# Altium footprint library CRYSTAL_OSC.PcbLib: 53 footprints (part 3 of 4)
Each footprint in its own frame and in the unit in brackets; x right, y up, seen from the top. Pads: shape width x height; smd on the part's side, far side on the other; paste and mask are expansions set on the pad; w line width, h text height; cw(c..) or ccw(c..) is an arc to the next point about the centre after c.
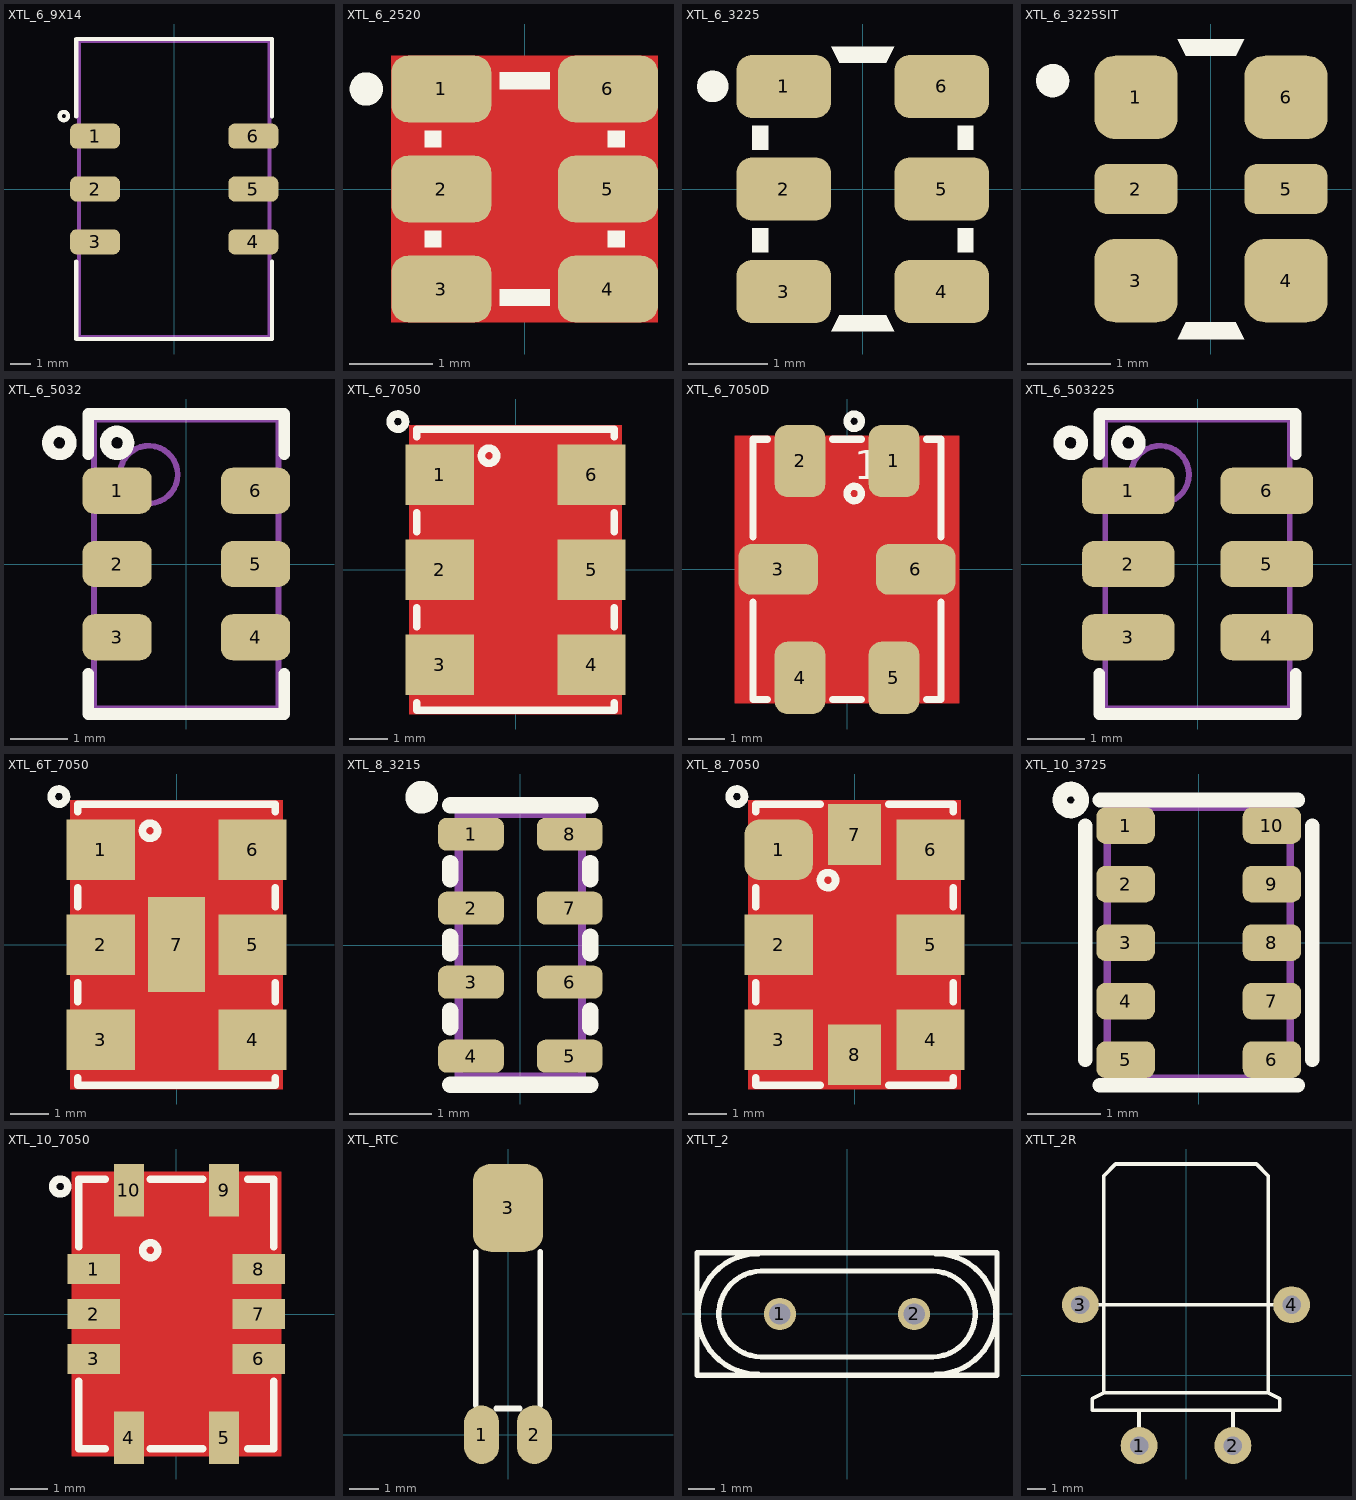
[diagram p2: the footprints below, top view; thin cyan lines are the x and y axes]

## XTL_6_9X14 [mm] "VCXO CVPD-920/940/970 9x14mm"
height 5.3
pads (6):
  rrect50% 2.4x1.2 smd: 1(-3.8,2.54) 2(-3.8,0) 3(-3.8,-2.54) 4(3.8,-2.54) 5(3.8,0) 6(3.8,2.54)
Top Overlay:
  circle w0.2: c-5.3,3.5 r0.2
  lines w0.2: -4.7,-3.481 -4.7,-7.2 4.7,-7.2 4.7,-3.481 ; -4.7,3.481 -4.7,7.2 4.7,7.2 4.7,3.481
Mechanical 15:
  lines w0.2: -4.57,-7.1 -4.57,7.1 4.57,7.1 4.57,-7.1 -4.57,-7.1
3D body "User Library-CVHD-950.step": height 5.3, standoff 0, extent -4.58,-7.1 4.58,7.1

## XTL_6_2520 [mm] "KT2520, KT2520, SM2520 2.5X2.0mm"
pads (6):
  rrect50% 1.2x0.8 smd mask+0.075: 1(-1,1.2) 2(-1,0) 3(-1,-1.2) 4(1,-1.2) 5(1,0) 6(1,1.2)
Top Layer:
  pour cut-out: -1.6,1.6 -1.6,-1.6 1.6,-1.6 1.6,1.6
Top Overlay:
  circle w0.2: c-1.9,1.2 r0.1
  region: 1.2,-0.7 1,-0.7 1,-0.5 1.2,-0.5
  region: 1.2,0.7 1,0.7 1,0.5 1.2,0.5
  region: -1.2,-0.7 -1,-0.7 -1,-0.5 -1.2,-0.5
  region: -1.2,0.7 -1,0.7 -1,0.5 -1.2,0.5
  region: 0.3,1.4 0.3,1.2 -0.3,1.2 -0.3,1.4
  region: 0.3,-1.4 0.3,-1.2 -0.3,-1.2 -0.3,-1.4
Mechanical 13:
  circle w0.1: c-0.7,0.9 r0.1
  lines w0.1: -1,-1.2 -1,1.2 1,1.2 1,-1.2 -1,-1.2
3D body "User Library-Osc KC2520.STEP": height 0.79, standoff 0, extent -1,-1.25 1,1.25

## XTL_6_3225 [mm] "CRYSTAL OSCILATOR 5X3.2mm"
height 0.8
pads (6):
  rrect50% 1.2x0.8 smd mask+0.075: 1(-1,1.3) 2(-1,0) 3(-1,-1.3) 4(1,-1.3) 5(1,0) 6(1,1.3)
Top Overlay:
  circle w0.2: c-1.9,1.3 r0.1
  region: -1.4,0.8 -1.2,0.8 -1.2,0.5 -1.4,0.5
  region: 1.4,0.8 1.2,0.8 1.2,0.5 1.4,0.5
  region: -1.4,-0.8 -1.2,-0.8 -1.2,-0.5 -1.4,-0.5
  region: 1.4,-0.8 1.2,-0.8 1.2,-0.5 1.4,-0.5
  region: 0.4,-1.8 0.3,-1.6 -0.3,-1.6 -0.4,-1.8
  region: 0.4,1.8 0.3,1.6 -0.3,1.6 -0.4,1.8
3D body "SG3225VAN.stp": height 0.95, standoff -0.01, extent -1.27,-1.62 1.27,1.62

## XTL_6_3225SIT [mm] "CRYSTAL OSCILATOR 5X3.2mm SIT"
height 0.8
pads (6):
  rrect50% 1x1 smd mask+0.075: 1(-0.9,1.1) 3(-0.9,-1.1) 4(0.9,-1.1) 6(0.9,1.1)
  rrect50% 1x0.6 smd mask+0.075: 2(-0.9,0) 5(0.9,0)
Top Overlay:
  circle w0.2: c-1.9,1.3 r0.1
  region: 0.4,1.8 0.3,1.6 -0.3,1.6 -0.4,1.8
  region: 0.4,-1.8 0.3,-1.6 -0.3,-1.6 -0.4,-1.8
3D body "User Library-SiT9121_3_20x2_50mm_series.step": height 0.81, standoff 0, extent -1.25,-1.6 1.25,1.6

## XTL_6_5032 [mm] "CRYSTAL OSCILATOR 5X3.2mm"
height 0.8
pads (6):
  rrect50% 1.2x0.8 smd: 1(-1.2,1.27) 2(-1.2,0) 3(-1.2,-1.27) 4(1.2,-1.27) 5(1.2,0) 6(1.2,1.27)
Top Overlay:
  circle w0.2: c-2.2,2.1 r0.2
  circle w0.2: c-1.2,2.1 r0.2
  lines w0.2: -1.7,-1.9 -1.7,-2.6 1.7,-2.6 1.7,-1.9 ; -1.7,1.9 -1.7,2.6 1.7,2.6 1.7,1.9
Mechanical 13:
  circle w0.1: c-0.65,1.55 r0.5
  lines w0.1: -1.6,-2.5 1.6,-2.5 1.6,2.5 -1.6,2.5 -1.6,-2.5
3D body "User Library-SG_5032_EPSON.step": height 1, standoff 0, extent -1.6,-2.5 1.6,2.5

## XTL_6_7050 [mm] "Crystal Oscillator 6-Lead, 7X5mm"
pads (6):
  rect 1.8x1.6 smd: 1(-2,2.5) 2(-2,0) 3(-2,-2.5) 4(2,-2.5) 5(2,0) 6(2,2.5)
Top Layer:
  pour cut-out: -2.8,3.8 -2.8,-3.8 2.8,-3.8 2.8,3.8
Top Overlay:
  circle w0.2: c-3.1,3.9 r0.2
  circle w0.2: c-0.7,3 r0.2
  lines w0.2: -2.6,-3.5 -2.6,-3.7 2.6,-3.7 2.6,-3.5 ; -2.6,-1.5 -2.6,-1 ; -2.6,1 -2.6,1.5 ; -2.6,3.5 -2.6,3.7 2.6,3.7 2.6,3.5 ; 2.6,-1.5 2.6,-1 ; 2.6,1 2.6,1.5
Mechanical 13:
  circle w0.1: c-1.55,2.55 r0.5
  lines w0.1: -2.5,-3.5 2.5,-3.5 2.5,3.5 -2.5,3.5 -2.5,-3.5
3D body "XTL254_6_700X500-EG-2121CA.step": height 1.2, standoff 0, extent -2.502,-3.502 2.503,3.502

## XTL_6_7050D [mm] "DSF753SDF-D73312GQ"
pads (6):
  rrect50% 1.4x2 smd: 1(1.3,3) 2(-1.3,3) 4(-1.3,-3) 5(1.3,-3)
  rrect50% 2.2x1.4 smd: 3(-1.9,0) 6(1.9,0)
Top Layer:
  pour cut-out: -3.1,3.7 -3.1,-3.7 3.1,-3.7 3.1,3.7
  region: -1.9,0.3 1.9,0.3 1.9,-0.3 -1.9,-0.3
Top Overlay:
  circle w0.2: c0.2,2.1 r0.2
  circle w0.2: c0.2,4.1 r0.2
  lines w0.2: -2.6,-0.9 -2.6,-3.6 -2.2,-3.6 ; -2.6,0.9 -2.6,3.6 -2.2,3.6 ; -0.4,-3.6 0.4,-3.6 ; -0.4,3.6 0.4,3.6 ; 2.2,-3.6 2.6,-3.6 2.6,-0.9 ; 2.2,3.6 2.6,3.6 2.6,0.9
  text "1" at 0.2,2.5 h0.8
Mechanical 13:
  circle w0.1: c-1.9,2.9 r0.3
  lines w0.1: -2.5,-3.5 2.5,-3.5 2.5,3.5 -2.5,3.5 -2.5,-3.5
3D body: height 1.5, standoff 0.01, extent -2.5,-3.5 2.5,3.5

## XTL_6_503225 [mm] "CRYSTAL OSCILATOR 5X3.2mm and 3.2X2.5mm"
height 0.8
pads (6):
  rrect50% 1.6x0.8 smd: 1(-1.2,1.27) 2(-1.2,0) 3(-1.2,-1.27) 4(1.2,-1.27) 5(1.2,0) 6(1.2,1.27)
Top Overlay:
  circle w0.2: c-2.2,2.1 r0.2
  circle w0.2: c-1.2,2.1 r0.2
  lines w0.2: -1.7,-1.9 -1.7,-2.6 1.7,-2.6 1.7,-1.9 ; -1.7,1.9 -1.7,2.6 1.7,2.6 1.7,1.9
Mechanical 13:
  circle w0.1: c-0.65,1.55 r0.5
  lines w0.1: -1.6,-2.5 1.6,-2.5 1.6,2.5 -1.6,2.5 -1.6,-2.5
3D body: height 0.8, standoff 0, extent -1.6,-2.5 1.6,2.5

## XTL_6T_7050 [mm] "SiT9102 7X5 WITH CENTER-PAD"
pads (7):
  rect 1.8x1.6 smd: 1(-2,2.5) 2(-2,0) 3(-2,-2.5) 4(2,-2.5) 5(2,0) 6(2,2.5)
  rect 1.5x2.5 smd: 7(0,0)
Top Layer:
  pour cut-out: -2.8,3.8 -2.8,-3.8 2.8,-3.8 2.8,3.8
Top Overlay:
  circle w0.2: c-3.1,3.9 r0.2
  circle w0.2: c-0.7,3 r0.2
  lines w0.2: -2.6,-3.5 -2.6,-3.7 2.6,-3.7 2.6,-3.5 ; -2.6,-1.5 -2.6,-1 ; -2.6,1 -2.6,1.5 ; -2.6,3.5 -2.6,3.7 2.6,3.7 2.6,3.5 ; 2.6,-1.5 2.6,-1 ; 2.6,1 2.6,1.5
Mechanical 13:
  circle w0.1: c-1.55,2.55 r0.5
  lines w0.1: -2.5,-3.5 2.5,-3.5 2.5,3.5 -2.5,3.5 -2.5,-3.5
3D body: height 1.5, standoff 0.01, extent -2.5,-3.5 2.5,3.5

## XTL_8_3215 [mm] "8-CLCC, 3.2X1.5X0.8mm, 0.9mm pitch"
height 0.8
pads (8):
  rrect50% 0.8x0.4 smd mask+0.1: 1(-0.6,1.35) 2(-0.6,0.45) 3(-0.6,-0.45) 4(-0.6,-1.35) 5(0.6,-1.35) 6(0.6,-0.45) 7(0.6,0.45) 8(0.6,1.35)
Top Overlay:
  circle w0.2: c-1.2,1.8 r0.1
  lines w0.2: -0.85,-1.7 0.85,-1.7 ; -0.85,-1 -0.85,-0.8 ; -0.85,-0.1 -0.85,0.1 ; -0.85,0.8 -0.85,1 ; -0.85,1.7 0.85,1.7 ; 0.85,-1 0.85,-0.8 ; 0.85,-0.1 0.85,0.1 ; 0.85,0.8 0.85,1
Mechanical 13:
  lines w0.1: -0.75,-1.6 -0.75,1.6 0.75,1.6 0.75,-1.6 -0.75,-1.6
3D body "AB-RTCMC-32.768kHz-AIGZ-S7.STEP": height 0.8, standoff 0, extent -0.75,-1.6 0.75,1.6

## XTL_8_7050 [mm] "CRYSTAL OSCILLATOR 7X5mm"
pads (8):
  rrect50% 1.8x1.6 smd: 1(-2,2.5)
  rect 1.8x1.6 smd: 2(-2,0) 3(-2,-2.5) 4(2,-2.5) 5(2,0) 6(2,2.5)
  rect 1.4x1.6 smd: 7(0,2.9) 8(0,-2.9)
Top Layer:
  pour cut-out: -2.8,3.8 -2.8,-3.8 2.8,-3.8 2.8,3.8
Top Overlay:
  circle w0.2: c-0.7,1.7 r0.2
  circle w0.2: c-3.1,3.9 r0.2
  lines w0.2: -2.6,-3.5 -2.6,-3.7 -0.9,-3.7 ; -2.6,-1.5 -2.6,-1 ; -2.6,1 -2.6,1.5 ; -2.6,3.5 -2.6,3.7 -0.9,3.7 ; 0.9,-3.7 2.6,-3.7 2.6,-3.5 ; 0.9,3.7 2.6,3.7 2.6,3.5 ; 2.6,-1.5 2.6,-1 ; 2.6,1 2.6,1.5
Mechanical 13:
  circle w0.1: c-1.55,2.55 r0.5
  lines w0.1: -2.5,-3.5 -2.5,3.5 2.5,3.5 2.5,-3.5 -2.5,-3.5
3D body "Si570.step": height 1.7, standoff 0, extent -2.5,-3.5 2.5,3.5

## XTL_10_3725 [mm] "10-VDFN, 3.7X2.5X0.9mm, 0.8mm pitch"
height 0.8
pads (10):
  rrect50% 0.8x0.5 smd mask+0.1: 1(-1,1.6) 2(-1,0.8) 3(-1,0) 4(-1,-0.8) 5(-1,-1.6) 6(1,-1.6) 7(1,-0.8) 8(1,0) 9(1,0.8) 10(1,1.6)
Top Overlay:
  circle w0.2: c-1.75,1.95 r0.15
  lines w0.2: -1.55,-1.6 -1.55,1.6 ; -1.35,-1.95 1.35,-1.95 ; -1.35,1.95 1.35,1.95 ; 1.55,-1.6 1.55,1.6
Mechanical 13:
  lines w0.1: -1.25,-1.85 1.25,-1.85 1.25,1.85 -1.25,1.85 -1.25,-1.85
3D body "AB-RTCMC-32.768kHz-EOA9-S3.STEP": height 0.9, standoff 0, extent -1.25,-1.85 1.25,1.85

## XTL_10_7050 [mm] "CRYSTAL OSCILLATOR 7.0X5.0mm 10PAD"
pads (10):
  rect 1.4x0.8 smd: 1(-2.2,1.2) 2(-2.2,0) 3(-2.2,-1.2) 6(2.2,-1.2) 7(2.2,0) 8(2.2,1.2)
  rect 0.8x1.4 smd: 4(-1.27,-3.3) 5(1.27,-3.3) 9(1.27,3.3) 10(-1.27,3.3)
Top Layer:
  pour cut-out: -2.8,3.8 -2.8,-3.8 2.8,-3.8 2.8,3.8
Top Overlay:
  circle w0.2: c-0.7,1.7 r0.2
  circle w0.2: c-3.1,3.4 r0.2
  lines w0.2: -2.6,-1.8 -2.6,-3.6 -1.9,-3.6 ; -2.6,1.8 -2.6,3.6 -1.9,3.6 ; -0.7,-3.6 0.7,-3.6 ; -0.7,3.6 0.7,3.6 ; 1.9,-3.6 2.6,-3.6 2.6,-1.8 ; 1.9,3.6 2.6,3.6 2.6,1.8
Mechanical 13:
  circle w0.1: c-1.55,2.55 r0.5
  lines w0.1: -2.5,-3.5 -2.5,3.5 2.5,3.5 2.5,-3.5 -2.5,-3.5
3D body "7X5-CFPT-126_v14.step": height 2, standoff 0, extent -2.5,-3.5 2.5,3.5

## XTL_RTC [mm] "AB26TRB, AB26TRJ, AB26TRQ"
height 2.3
pads (3):
  oval 1.2x2 smd mask+0.1: 1(-0.9,0) 2(0.9,0)
  rrect50% 2.4x3 smd: 3(0,7.75)
Top Overlay:
  lines w0.2: -1.1,1 -1.1,6.25 ; -0.4,0.9 0.4,0.9 ; 1.1,1 1.1,6.25
3D body "User Library-DT-26-1.step": height 2, standoff -2, extent -1,-0.1 1,7.04

## XTLT_2 [mm] "Crystal PTH HC49S"
height 5.08
pads (2):
  round 1.2 / inner oval 1.2x2 / far side oval 1.2x2 hole 0.8: 1(-2.5,0)
  round 1.2 / inner round 1.2 / far side oval 1.2x2 hole 0.8: 2(2.5,0)
Top Overlay:
  lines w0.2: -3.302,-2.25 cw(c-3.302,0) -3.302,2.25 ; -3.2,-1.6 3.2,-1.6 ; -3.2,1.6 3.2,1.6 ; -3.175,-1.6 cw(c-3.175,0) -3.175,1.6 ; 3.175,-1.6 ccw(c3.175,0) 3.175,1.6 ; 3.302,-2.25 ccw(c3.302,0) 3.302,2.25 ; -5.588,-2.286 -5.588,2.286 5.588,2.286 5.588,-2.286 -5.588,-2.286
3D body "HC-49_LT_THT_16MHz.step": height 3.6, standoff -1.99, extent -5.668,-2.325 5.669,2.325

## XTLT_2R [mm] "Crystal PTH HC49S 11x4.5x13mm, bended"
height 13
pads (4):
  round 2 hole 1: 1(-2.54,-3.81) 2(2.54,-3.81) 3(-5.715,3.81) 4(5.715,3.81)
Top Overlay:
  circle w0.2: c5.715,3.81 r0.635
  circle w0.2: c-5.715,3.81 r0.635
  lines w0.2: -5.715,3.81 5.715,3.81 ; -2.54,-3.81 -2.54,-1.905 ; 2.54,-3.81 2.54,-1.905 ; -4.445,-0.953 -5.08,-1.27 -5.08,-1.905 5.08,-1.905 5.08,-1.27 4.445,-0.953 ; -4.445,-0.953 -4.445,10.795 -3.81,11.43 3.81,11.43 4.445,10.795 4.445,-0.953 ; -4.445,-0.953 4.445,-0.953